# EAGLE library part ?10B-PH (library con-jst)
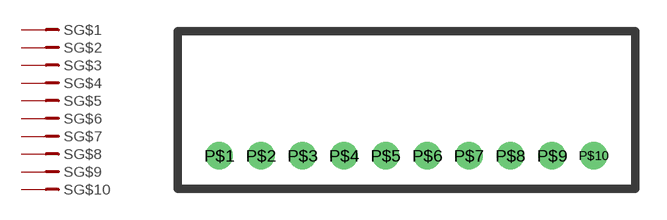
[diagram p30: symbol with the pads of S10B-PH; footprint S10B-PH]

Designator prefix S; gates G$1=PM-N G$2=PM-N G$3=PM-N G$4=PM-N G$5=PM-N G$6=PM-N G$7=PM-N G$8=PM-N G$9=PM-N G$10=PM-N

## 10B-PH  [S10B-PH]
P$1  G$1:1  pas
P$2  G$2:1  pas
P$3  G$3:1  pas
P$4  G$4:1  pas
P$5  G$5:1  pas
P$6  G$6:1  pas
P$7  G$7:1  pas
P$8  G$8:1  pas
P$9  G$9:1  pas
P$10  G$10:1  pas

## Footprint S10B-PH (pad centres in mm)
drill 0.8: P$1 -9,0; P$2 -7,0; P$3 -5,0; P$4 -3,0; P$5 -1,0; P$6 1,0; P$7 3,0; P$8 5,0; P$9 7,0; P$10 9,0